# EAGLE library part FMS008-6001-0 (library Connectors)
8 Pin SIM Card Reader Push / Push with Switch
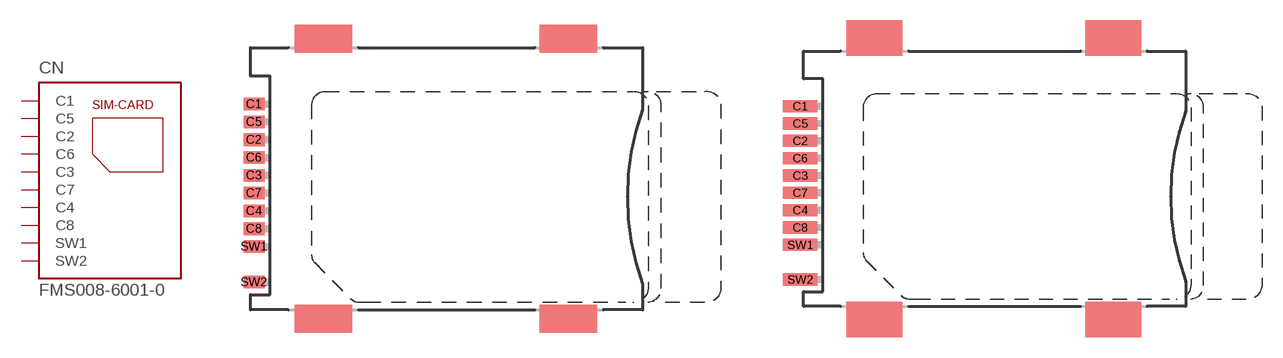
[diagram p1: symbol with the pads of FMS008-6001-0; footprints FMS008-6001-0, FMS008-6001-0_DEV]

Designator prefix CN

## FMS008-6001-0  [FMS008-6001-0]
C1  C1  pas
C2  C2
C3  C3
C4  C4
C5  C5  pas
C6  C6  pas
C7  C7
C8  C8
SW1  SW1
SW2  SW2

## FMS008-6001-0_  [FMS008-6001-0_DEV]
Pads as for FMS008-6001-0

## Footprint FMS008-6001-0 (pad centres in mm)
SIM Card Module
smd 1.5 x 0.9: C1 -0.75,5.32; C2 -0.75,2.78; C3 -0.75,0.24; C4 -0.75,-2.3; C5 -0.75,4.05; C6 -0.75,1.51; C7 -0.75,-1.03; C8 -0.75,-3.57; SW1 -0.75,-4.84; SW2 -0.75,-7.38

## Footprint FMS008-6001-0_DEV (pad centres in mm)
SIM Card Module
smd 2.5 x 0.9: C1 -1.25,5.32; C2 -1.25,2.78; C3 -1.25,0.24; C4 -1.25,-2.3; C5 -1.25,4.05; C6 -1.25,1.51; C7 -1.25,-1.03; C8 -1.25,-3.57; SW1 -1.25,-4.84; SW2 -1.25,-7.38